# Altium footprint library DS3232SN.PcbLib: 1 footprints
Each footprint in its own frame and in the unit in brackets; x right, y up, seen from the top. Pads: shape width x height; smd on the part's side, far side on the other; paste and mask are expansions set on the pad; w line width, h text height; cw(c..) or ccw(c..) is an arc to the next point about the centre after c.
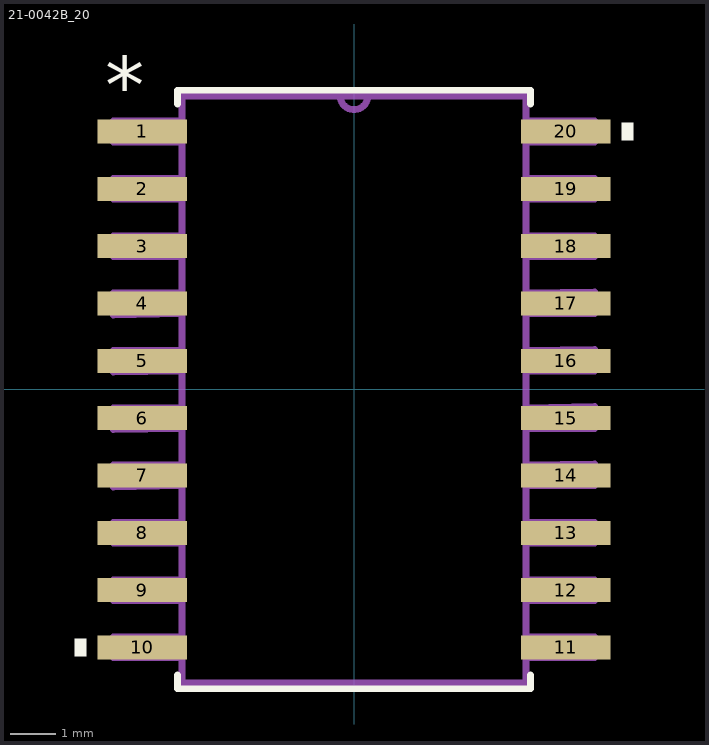
[diagram p0: the footprint, top view; thin cyan lines are the x and y axes]

## 21-0042B_20 [mil]
pads (20):
  rect 78x21 smd: 1(-184.5,225) 2(-184.5,175) 3(-184.5,125) 4(-184.5,75) 5(-184.5,25) 6(-184.5,-25) 7(-184.5,-75) 8(-184.5,-125) 9(-184.5,-175) 10(-184.5,-225) 11(184.5,-225) 12(184.5,-175) 13(184.5,-125) 14(184.5,-75) 15(184.5,-25) 16(184.5,25) 17(184.5,75) 18(184.5,125) 19(184.5,175) 20(184.5,225)
Top Overlay:
  region: 243.5,217.5 233.5,217.5 233.5,232.5 243.5,232.5
  region: -233.5,-232.5 -243.5,-232.5 -243.5,-217.5 -233.5,-217.5
  lines w6: -154,-249 -154,-261 154,-261 154,-249 ; -154,249 -154,261 154,261 154,249
  text "*" at -217,241 h50
Mechanical 13:
  lines w6: -12,256 ccw(c0,256) 12,256 ; -12,256 -150,256 -150,-256 150,-256 150,256 12,256 ; -12,256 12,256 ; -210,-234 -150,-234 -150,-216 -210,-216 -210,-234 ; -210,-184 -150,-184 -150,-166 -210,-166 -210,-184 ; -210,-134 -150,-134 -150,-116 -210,-116 -210,-134 ; -210,-85 -150,-84 -150,-66 -210,-66 -210,-85 ; -210,-35 -150,-34 -150,-16 -210,-16 -210,-35 ; -210,15 -150,16 -150,34 -210,34 -210,15 ; -210,65 -150,66 -150,84 -210,84 -210,65 ; -210,116 -150,116 -150,134 -210,134 -210,116 ; -210,166 -150,166 -150,184 -210,184 -210,166 ; -210,216 -150,216 -150,234 -210,234 -210,216 ; 150,-234 210,-234 210,-216 150,-216 150,-234 ; 150,-184 210,-184 210,-166 150,-166 150,-184 ; 150,-134 210,-134 210,-116 150,-116 150,-134 ; 150,-84 210,-84 210,-65 150,-66 150,-84 ; 150,-34 210,-34 210,-15 150,-16 150,-34 ; 150,16 210,16 210,35 150,34 150,16 ; 150,66 210,66 210,85 150,84 150,66 ; 150,116 210,116 210,134 150,134 150,116 ; 150,166 210,166 210,184 150,184 150,166 ; 150,216 210,216 210,234 150,234 150,216
  text "*" at -157,203 h50
3D body "step_temp.STEP": height 104.33, standoff 0, extent -203.25,-251.97 203.25,251.97